# Altium footprint library 8A8K64S4A12.PcbLib: 32 footprints (part 1 of 2)
Each footprint in its own frame and in the unit in brackets; x right, y up, seen from the top. Pads: shape width x height; smd on the part's side, far side on the other; paste and mask are expansions set on the pad; w line width, h text height; cw(c..) or ccw(c..) is an arc to the next point about the centre after c.
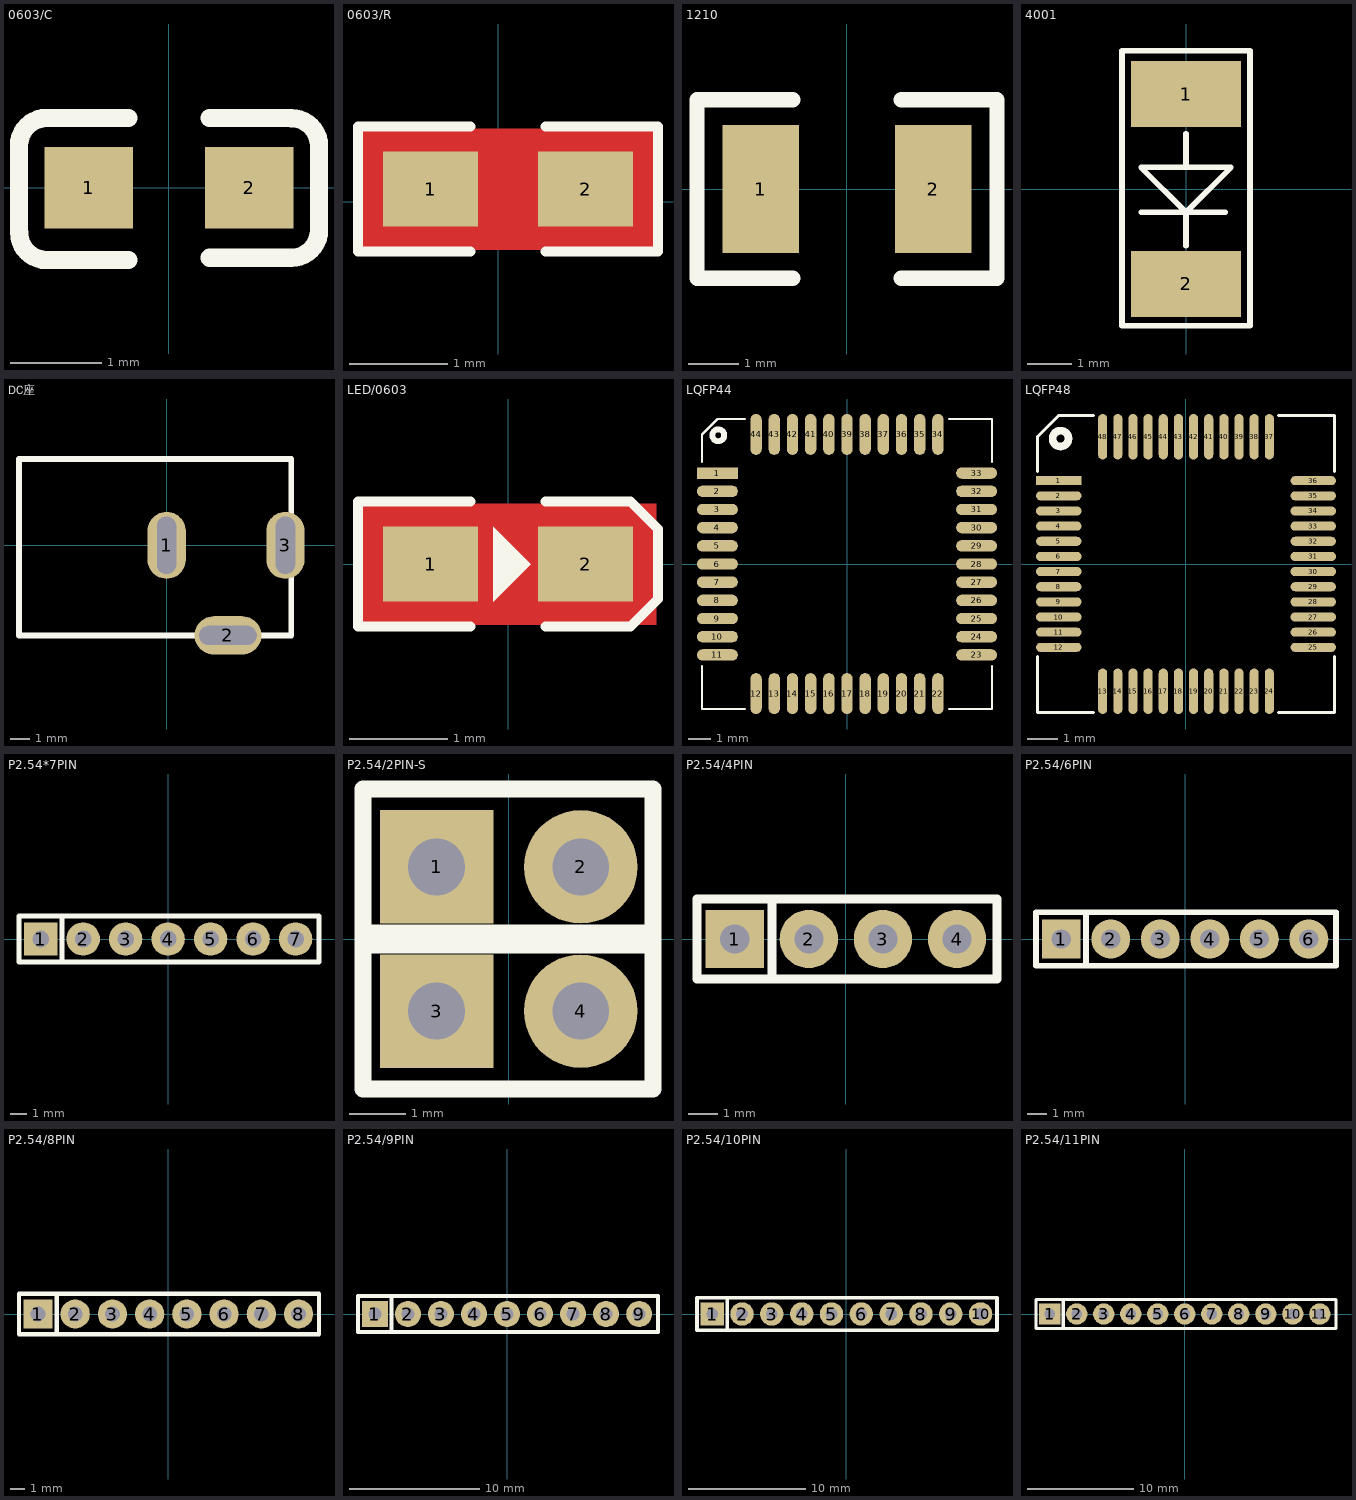
[diagram p0: the footprints below, top view; thin cyan lines are the x and y axes]

## 0603/C [mil]
pads (2):
  rect 38x35 smd: 1(-34.5,0) 2(34.5,0)
Top Overlay:
  lines w7.87: -64.5,-19.19 -64.5,18.2 cw(c-52.68,18.2) -52.68,30.01 -17.5,30 ; -64.46,-19.19 ccw(c-52.65,-19.19) -52.65,-31 -17.5,-31 ; 17.5,-30 52.67,-30 ; 17.5,30 52.67,30 ; 52.67,-30.06 ccw(c52.67,-18.25) 64.49,-18.25 64.5,18.12 ccw(c52.67,18.12) 52.67,29.93
3D body: height 11.89, standoff 0, extent -32.53,-15.75 30.46,15.75

## 0603/R [mil]
pads (2):
  rect 38x30 smd: 1(-27,5) 2(35,5)
Top Layer:
  pour cut-out: -55.29,29.17 63.21,29.17 63.21,-19.21 -55.29,-19.21
Top Overlay:
  lines w3.94: -11,-20 -56,-20 -56,30 -11,30 ; 19,-20 64,-20 64,30 19,30

## 1210 [mil]
pads (2):
  rect 60x100 smd: 1(-67.5,0) 2(67.5,0)
Top Overlay:
  lines w12: -42.5,-70 -117.5,-70 -117.5,70 -42.5,70 ; 42.5,-70 117.5,-70 117.5,70 42.5,70

## 4001 [mm]
pads (2):
  rect 2.5x1.5 smd: 1(0,2.15) 2(0,-2.15)
Top Overlay:
  lines w0.127: -1.016,-0.526 0.889,-0.526 ; 0,-1.288 0,-0.526 ; 0,0.49 0,1.252 ; 0,-0.526 1.016,0.49 -1.016,0.49 0,-0.526 ; -1.451,-3.1 -1.451,3.13 1.451,3.13 1.451,-3.1 -1.451,-3.1

## DC座 [mm]
pads (3):
  oval 2x3.5 hole 1 slot 3 at 90 deg: 1(0,0) 3(6.2,0)
  oval 3.5x2 hole 1 slot 3 at 0 deg: 2(3.2,-4.7)
Top Overlay:
  lines w0.3: -7.7,-4.7 -7.7,4.5 6.5,4.5 6.5,-4.7 -7.7,-4.7

## LED/0603 [mil]
pads (2):
  rect 38x30 smd: 1(-31,0) 2(31,0)
Top Layer:
  pour cut-out: -59.29,24.17 59.21,24.17 59.21,-24.21 -59.29,-24.21
Top Overlay:
  region: -6,-15 9,0 -6,15
  lines w3.94: -15,-25 -60,-25 -60,25 -15,25 ; 15,-25 49,-25 60,-14 60,14 49,25 15,25

## LQFP44 [mm]
pads (44):
  rect 1.8x0.5 smd: 1(-5.7,4)
  oval 1.8x0.5 smd: 2(-5.7,3.2) 3(-5.7,2.4) 4(-5.7,1.6) 5(-5.7,0.8) 6(-5.7,0) 7(-5.7,-0.8) 8(-5.7,-1.6) 9(-5.7,-2.4) 10(-5.7,-3.2) 11(-5.7,-4) 23(5.7,-4) 24(5.7,-3.2) 25(5.7,-2.4) 26(5.7,-1.6) 27(5.7,-0.8) 28(5.7,0) 29(5.7,0.8) 30(5.7,1.6) 31(5.7,2.4) 32(5.7,3.2) 33(5.7,4)
  oval 0.5x1.8 smd: 12(-4,-5.7) 13(-3.2,-5.7) 14(-2.4,-5.7) 15(-1.6,-5.7) 16(-0.8,-5.7) 17(0,-5.7) 18(0.8,-5.7) 19(1.6,-5.7) 20(2.4,-5.7) 21(3.2,-5.7) 22(4,-5.7) 34(4,5.7) 35(3.2,5.7) 36(2.4,5.7) 37(1.6,5.7) 38(0.8,5.7) 39(0,5.7) 40(-0.8,5.7) 41(-1.6,5.7) 42(-2.4,5.7) 43(-3.2,5.7) 44(-4,5.7)
Top Overlay:
  circle w0.254: c-5.664,5.664 r0.262
  lines w0.1: -6.375,-4.5 -6.375,-6.375 -4.5,-6.375 ; -6.375,4.5 -6.375,5.7 -5.7,6.375 -4.5,6.375 ; 4.5,-6.375 6.375,-6.375 6.375,-4.5 ; 4.5,6.375 6.375,6.375 6.375,4.5

## LQFP48 [mm]
pads (48):
  rect 1.5x0.3 smd: 1(-4.2,2.75)
  oval 1.5x0.3 smd: 2(-4.2,2.25) 3(-4.2,1.75) 4(-4.2,1.25) 5(-4.2,0.75) 6(-4.2,0.25) 7(-4.2,-0.25) 8(-4.2,-0.75) 9(-4.2,-1.25) 10(-4.2,-1.75) 11(-4.2,-2.25) 12(-4.2,-2.75) 25(4.2,-2.75) 26(4.2,-2.25) 27(4.2,-1.75) 28(4.2,-1.25) 29(4.2,-0.75) 30(4.2,-0.25) 31(4.2,0.25) 32(4.2,0.75) 33(4.2,1.25) 34(4.2,1.75) 35(4.2,2.25) 36(4.2,2.75)
  oval 0.3x1.5 smd: 13(-2.75,-4.2) 14(-2.25,-4.2) 15(-1.75,-4.2) 16(-1.25,-4.2) 17(-0.75,-4.2) 18(-0.25,-4.2) 19(0.25,-4.2) 20(0.75,-4.2) 21(1.25,-4.2) 22(1.75,-4.2) 23(2.25,-4.2) 24(2.75,-4.2) 37(2.75,4.2) 38(2.25,4.2) 39(1.75,4.2) 40(1.25,4.2) 41(0.75,4.2) 42(0.25,4.2) 43(-0.25,4.2) 44(-0.75,4.2) 45(-1.25,4.2) 46(-1.75,4.2) 47(-2.25,4.2) 48(-2.75,4.2)
Top Overlay:
  circle w0.254: c-4.14,4.14 r0.262
  lines w0.1: -4.9,-3.05 -4.9,-4.9 -3.05,-4.9 ; -4.9,3.05 -4.9,4.2 -4.2,4.9 -3.05,4.9 ; 3.05,-4.9 4.9,-4.9 4.9,-3.05 ; 3.05,4.9 4.9,4.9 4.9,3.05

## P2.54*7PIN [mm]
pads (7):
  rect 2x2 hole 1: 1(-7.62,0)
  round 2 hole 1: 2(-5.08,0) 3(-2.54,0) 4(0,0) 5(2.54,0) 6(5.08,0) 7(7.62,0)
Top Overlay:
  lines w0.305: -6.35,-1.372 -6.35,1.372 ; -8.915,-1.372 -8.915,1.372 9.017,1.372 9.017,-1.372 -8.915,-1.372

## P2.54/2PIN-S [mm]
pads (4):
  rect 2x2 hole 1: 1(-1.27,1.27) 3(-1.27,-1.27)
  round 2 hole 1: 2(1.27,1.27) 4(1.27,-1.27)
Top Overlay:
  lines w0.305: -2.565,-2.642 -2.565,0.102 2.54,0.102 2.54,-2.642 -2.565,-2.642 ; -2.565,-0.102 -2.565,2.642 2.54,2.642 2.54,-0.102 -2.565,-0.102

## P2.54/4PIN [mm]
pads (4):
  rect 2x2 hole 1: 1(-3.81,0)
  round 2 hole 1: 2(-1.27,0) 3(1.27,0) 4(3.81,0)
Top Overlay:
  lines w0.305: -2.54,-1.372 -2.54,1.372 ; -5.105,-1.372 -5.105,1.372 5.182,1.372 5.182,-1.372 -5.105,-1.372

## P2.54/6PIN [mm]
pads (6):
  rect 2x2 hole 1: 1(-6.35,0)
  round 2 hole 1: 2(-3.81,0) 3(-1.27,0) 4(1.27,0) 5(3.81,0) 6(6.35,0)
Top Overlay:
  lines w0.305: -5.08,-1.372 -5.08,1.372 ; -7.645,-1.372 7.747,-1.372 7.747,1.372 -7.645,1.372 -7.645,-1.372

## P2.54/8PIN [mm]
pads (8):
  rect 2x2 hole 1: 1(-8.89,0)
  round 2 hole 1: 2(-6.35,0) 3(-3.81,0) 4(-1.27,0) 5(1.27,0) 6(3.81,0) 7(6.35,0) 8(8.89,0)
Top Overlay:
  lines w0.305: -7.62,-1.372 -7.62,1.372 ; -10.185,-1.372 10.287,-1.372 10.287,1.372 -10.185,1.372 -10.185,-1.372

## P2.54/9PIN [mm]
pads (9):
  rect 2x2 hole 1: 1(-10.16,0)
  round 2 hole 1: 2(-7.62,0) 3(-5.08,0) 4(-2.54,0) 5(0,0) 6(2.54,0) 7(5.08,0) 8(7.62,0) 9(10.16,0)
Top Overlay:
  lines w0.305: -8.89,-1.372 -8.89,1.372 ; -11.455,-1.372 -11.455,1.372 11.608,1.372 11.608,-1.372 -11.455,-1.372

## P2.54/10PIN [mm]
pads (10):
  rect 2x2 hole 1: 1(-11.43,0)
  round 2 hole 1: 2(-8.89,0) 3(-6.35,0) 4(-3.81,0) 5(-1.27,0) 6(1.27,0) 7(3.81,0) 8(6.35,0) 9(8.89,0) 10(11.43,0)
Top Overlay:
  lines w0.305: -10.16,-1.372 -10.16,1.372 ; -12.725,-1.372 -12.725,1.372 12.827,1.372 12.827,-1.372 -12.725,-1.372

## P2.54/11PIN [mm]
pads (11):
  rect 2x2 hole 1: 1(-12.7,0)
  round 2 hole 1: 2(-10.16,0) 3(-7.62,0) 4(-5.08,0) 5(-2.54,0) 6(0,0) 7(2.54,0) 8(5.08,0) 9(7.62,0) 10(10.16,0) 11(12.7,0)
Top Overlay:
  lines w0.305: -11.43,-1.372 -11.43,1.372 ; -13.995,-1.372 -13.995,1.372 14.224,1.372 14.224,-1.372 -13.995,-1.372